# Altium footprint library APAM1568YE15V2.0.PcbLib: 1 footprints
Each footprint in its own frame and in the unit in brackets; x right, y up, seen from the top. Pads: shape width x height; smd on the part's side, far side on the other; paste and mask are expansions set on the pad; w line width, h text height; cw(c..) or ccw(c..) is an arc to the next point about the centre after c.
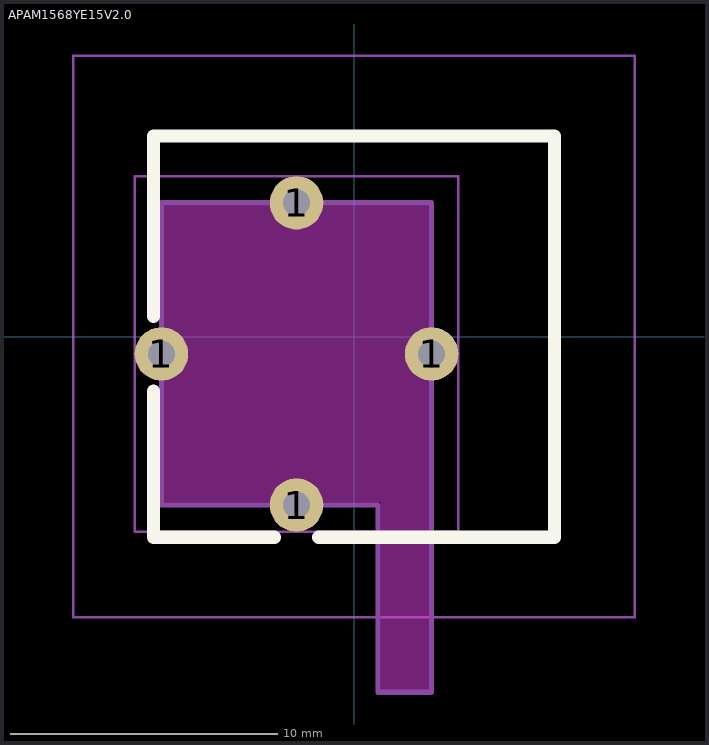
[diagram p0: the footprint, top view; thin cyan lines are the x and y axes]

## APAM1568YE15V2.0 [mm]
pads (4):
  round 2 hole 1: 1(-7.2,-0.65) 1(-2.15,-6.3) 1(-2.15,5) 1(2.9,-0.65)
Top Overlay:
  lines w0.5: -7.5,-2.05 -7.5,-7.5 -2.975,-7.5 ; -7.5,0.75 -7.5,7.5 7.5,7.5 7.5,-7.5 -1.325,-7.5
Keep-Out Layer:
  board cut-out: -7.1,-6.2 -7.1,4.9 2.8,4.9 2.8,-13.2 1,-13.2 1,-6.2
Top Courtyard:
  lines w0.1: -10.5,-10.5 -10.5,10.5 10.5,10.5 10.5,-10.5 -10.5,-10.5
Bottom Courtyard:
  lines w0.1: -8.2,-7.3 3.9,-7.3 3.9,6 -8.2,6 -8.2,-7.3
Route Tool Path:
  lines w0.2: -7.2,-6.3 -7.2,5 2.9,5 2.9,-13.3 0.9,-13.3 0.9,-6.3 -7.2,-6.3
3D body "APAM1568YE15V2.0.STEP": height 5.3, standoff -1.4, extent -7.5,-37.5 7.5,7.5